# Altium footprint library 2019-11-24_21-52-03.PcbLib: 1 footprints
Each footprint in its own frame and in the unit in brackets; x right, y up, seen from the top. Pads: shape width x height; smd on the part's side, far side on the other; paste and mask are expansions set on the pad; w line width, h text height; cw(c..) or ccw(c..) is an arc to the next point about the centre after c.
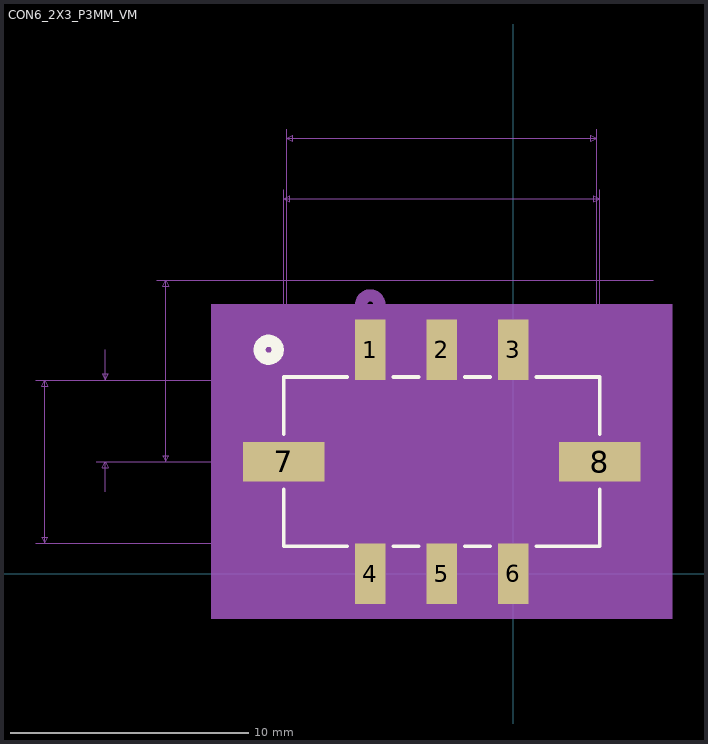
[diagram p0: the footprint, top view; thin cyan lines are the x and y axes]

## CON6_2X3_P3MM_VM [mm]
pads (8):
  rect 1.27x2.54 smd: 1(-6,9.4) 2(-3,9.4) 3(0,9.4) 4(-6,0) 5(-3,0) 6(0,0)
  rect 3.429x1.651 smd: 7(-9.635,4.7) 8(3.635,4.7)
Top Overlay:
  circle w0.508: c-10.264,9.4 r0.381
  lines w0.152: -9.629,3.542 -9.629,1.144 -6.968,1.144 ; -9.629,5.858 -9.629,8.256 -6.968,8.256 ; -5.032,1.144 -3.968,1.144 ; -5.032,8.256 -3.968,8.256 ; -2.032,1.144 -0.968,1.144 ; -2.032,8.256 -0.968,8.256 ; 0.968,1.144 3.629,1.144 3.629,3.542 ; 0.968,8.256 3.629,8.256 3.629,5.858
Bottom Overlay:
  circle w0.508: c-10.264,9.4 r0.381
Mechanical 5:
  region: -12.677,11.304 6.677,11.304 6.677,-1.904 -12.677,-1.904
Mechanical 7:
  lines w0.025: -20.043,1.271 -9.502,1.271 ; -20.043,8.129 -9.502,8.129 ; -17.503,4.7 -3,4.7 ; -17.503,8.129 -9.502,8.129 ; -17.122,3.43 -17.122,4.7 ; -17.122,9.399 -17.122,8.129 ; -14.963,4.7 -3,4.7 ; -14.963,12.32 5.89,12.32 ; -12.042,3.43 -12.042,4.7 ; -12.042,5.97 -12.042,4.7 ; -9.635,4.7 -9.635,16.13 ; -9.502,18.67 -9.502,8.129 ; -7.27,10.669 -6,10.669 ; -6,0 6.423,0 ; -6,11.05 -6,9.4 6.423,9.4 ; -3,9.4 -3,11.05 ; -1.73,10.669 -3,10.669 ; 3.502,8.129 3.502,18.67 ; 3.635,16.13 3.635,4.7 -12.423,4.7 -3,4.7 ; -19.662,1.271 -19.535,1.525 -19.789,1.525 -19.662,1.271 ; -19.662,1.271 -19.662,8.129 ; -19.662,8.129 -19.535,7.875 -19.789,7.875 -19.662,8.129 ; -17.122,4.7 -16.995,4.446 -17.249,4.446 -17.122,4.7 ; -17.122,8.129 -16.995,8.383 -17.249,8.383 -17.122,8.129 ; -14.582,4.7 -14.455,4.954 -14.709,4.954 -14.582,4.7 ; -14.582,4.7 -14.582,12.32 ; -14.582,12.32 -14.455,12.066 -14.709,12.066 -14.582,12.32 ; -12.042,4.7 -11.915,4.446 -12.169,4.446 -12.042,4.7 ; -12.042,4.7 -11.915,4.954 -12.169,4.954 -12.042,4.7 ; -9.635,15.749 -9.381,15.622 -9.381,15.876 -9.635,15.749 ; -9.635,15.749 3.635,15.749 ; -9.502,18.289 -9.248,18.162 -9.248,18.416 -9.502,18.289 ; -9.502,18.289 3.502,18.289 ; -6,10.669 -6.254,10.542 -6.254,10.796 -6,10.669 ; -3,10.669 -2.746,10.542 -2.746,10.796 -3,10.669 ; 3.502,18.289 3.248,18.162 3.248,18.416 3.502,18.289 ; 3.635,15.749 3.381,15.622 3.381,15.876 3.635,15.749 ; 6.042,0 6.169,0.254 5.915,0.254 6.042,0 ; 6.042,0 6.042,9.4 ; 6.042,9.4 6.169,9.146 5.915,9.146 6.042,9.4
  text "0.27in/6.858mm" at -24.615,6.097 h0.64
  text "0.135in/3.429mm" at -22.393,6.097 h0.64
  text "0.3in/7.62mm" at -18.9,8.193 h0.64
  text "0in/0mm" at -14.773,4.383 h0.64
  text "0.37in/9.4mm" at 6.55,4.383 h0.64
  text "0.512in/13.005mm" at -5.54,18.797 h0.64
  text "0.522in/13.27mm" at -5.381,16.257 h0.64
  text "0.118in/3mm" at -6.246,11.177 h0.64
  text "Alt Padstyle 2: OX90Y60D30P" at -11.572,-15.874 h1.27
  text "Alt Padstyle 1: OX60Y90D30P" at -11.572,-13.969 h1.27
  text "Right Mtg Padstyle: EX60Y60D30P" at -12.842,-12.064 h1.27
  text "Left Mtg Padstyle: EX60Y60D30P" at -12.525,-10.159 h1.27
  text "3rd Mtg Padstyle: EX70Y70D70P" at -12.207,-8.254 h1.27
  text "2nd Mtg Padstyle: EX70Y70D70P" at -12.207,-6.349 h1.27
  text "1st Mtg Padstyle: RX135Y65D0T" at -12.207,-4.444 h1.27
  text "Default Padstyle: RX100Y50D0T" at -12.207,-2.539 h1.27
Mechanical 13:
  circle w0.508: c-6,11.305 r0.381
  lines w0.025: -9.502,1.271 -9.502,8.129 3.502,8.129 3.502,1.271 -9.502,1.271
Mechanical 15:
  region: 3.502,8.129 -9.502,8.129 -9.502,1.271 3.502,1.271
  region: 3.756,8.383 -9.756,8.383 -9.756,1.017 3.756,1.017
  lines w0.152: -9.756,1.017 3.756,1.017 3.756,8.383 -9.756,8.383 -9.756,1.017
3D body: height 0.25, standoff 0, extent 0,0 0.254,0.254